# Altium schematic symbol library Coilcraft.SchLib: 1 symbol
Pins are listed as number, name and electrical type; pins without a type are passive.

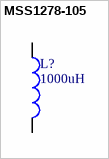
[diagram p0: symbol MSS1278-105]

## MSS1278-105
designator L?, comment 1000uH
Mfr_Typ1: Coilcraft_MSS1278; Supplier1: *; Supplier2: *; Supplier3: *; Reference1: *; Reference2: *; Reference3: *; Value: 1000uH; Price1: *; Price2: *; Price3: *
simulation model MSS1278-105 (Model Description)
pins: 1, 2